# Altium schematic symbol library Res_3_2__1_6.SchLib: 1 symbol
Pins are listed as number, name and electrical type; pins without a type are passive.

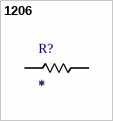
[diagram p0: symbol 1206]

## 1206
designator R?
Value: *
footprint 1206
pins: 1, 2